# EAGLE library part MAX6369 (library DSDEagleLibrary)
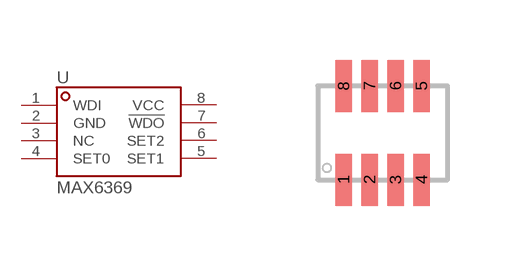
[diagram p30: symbol with the pads of MAX6369; footprint MAX6369]

Designator prefix -

## MAX6369  [MAX6369]
1  WDI
2  GND
3  NC
4  SET0
5  SET1
6  SET2
7  !WDO
8  VCC

## Footprint MAX6369 (pad centres in mm)
smd 0.42 x 1.3: 1 0,0; 2 0.65,0; 3 1.3,0; 4 1.95,0; 5 1.95,2.35; 6 1.3,2.35; 7 0.65,2.35; 8 0,2.35